# EAGLE library part TCA9548A (library TrackerSłonecznyLIB)
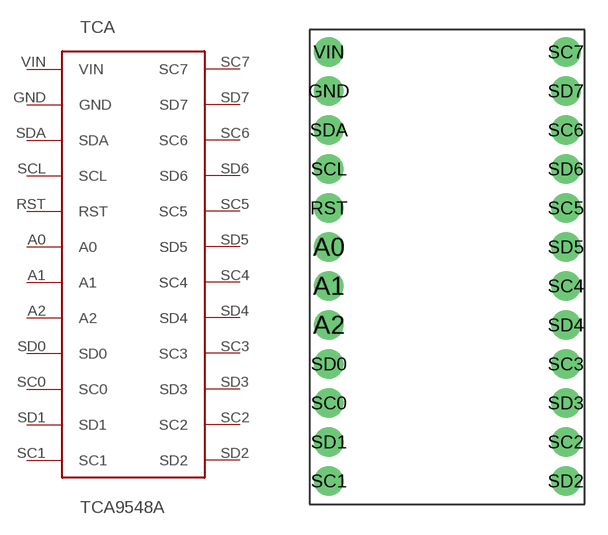
[diagram p0: symbol with the pads of TCA9548A; footprint TCA9548A]

Designator prefix TCA

## TCA9548A  [TCA9548A]
A0  A0
A1  A1
A2  A2
GND  GND
RST  RST
SC0  SC0
SC1  SC1
SC2  SC2
SC3  SC3
SC4  SC4
SC5  SC5
SC6  SC6
SC7  SC7
SCL  SCL
SD0  SD0
SD1  SD1
SD2  SD2
SD3  SD3
SD4  SD4
SD5  SD5
SD6  SD6
SD7  SD7
SDA  SDA
VIN  VIN

## Footprint TCA9548A (pad centres in mm)
drill 1 pad 1.93: A0 1.26,16.81; A1 1.26,14.26; A2 1.26,11.71; GND 1.26,27.01; RST 1.26,19.36; SC0 1.26,6.61; SC1 1.26,1.51; SC2 16.76,4.06; SC3 16.76,9.16; SC4 16.76,14.26; SC5 16.76,19.36; SC6 16.76,24.46; SC7 16.76,29.56; SCL 1.26,21.91; SD0 1.26,9.16; SD1 1.26,4.06; SD2 16.76,1.51; SD3 16.76,6.61; SD4 16.76,11.71; SD5 16.76,16.81; SD6 16.76,21.91; SD7 16.76,27.01; SDA 1.26,24.46; VIN 1.26,29.56